# EAGLE library part 62000811121 (library Headers)
THT Vertical Pin Header WR-PHD, Pitch 2.00 mm, Single Row, 8 pins Manufacturer's datasheet <https://datasheet.octopart.com/62000811121-W%C3%BCrth-Elektronik-datasheet-117282012.pdf>
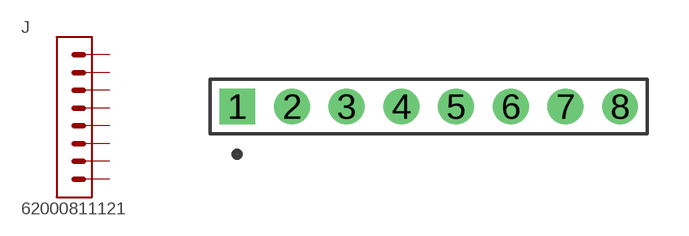
[diagram p7: symbol with the pads of 62000811121; footprint 62000811121]

Designator prefix J

## 62000811121 (CREATED_BY: PCBLayout.com; MANUFACTURER: Würth Elektronik; MPN: 62000811121)  [62000811121]
1  1  pas
2  2  pas
3  3  pas
4  4  pas
5  5  pas
6  6  pas
7  7  pas
8  8  pas

## Footprint 62000811121 (pad centres in mm)
drill 0.8 square: 1 -7,0
drill 0.8: 2 -5,0; 3 -3,0; 4 -1,0; 5 1,0; 6 3,0; 7 5,0; 8 7,0